# Altium schematic symbol library this.SchLib: 12 symbols
Pins are listed as number, name and electrical type; pins without a type are passive.

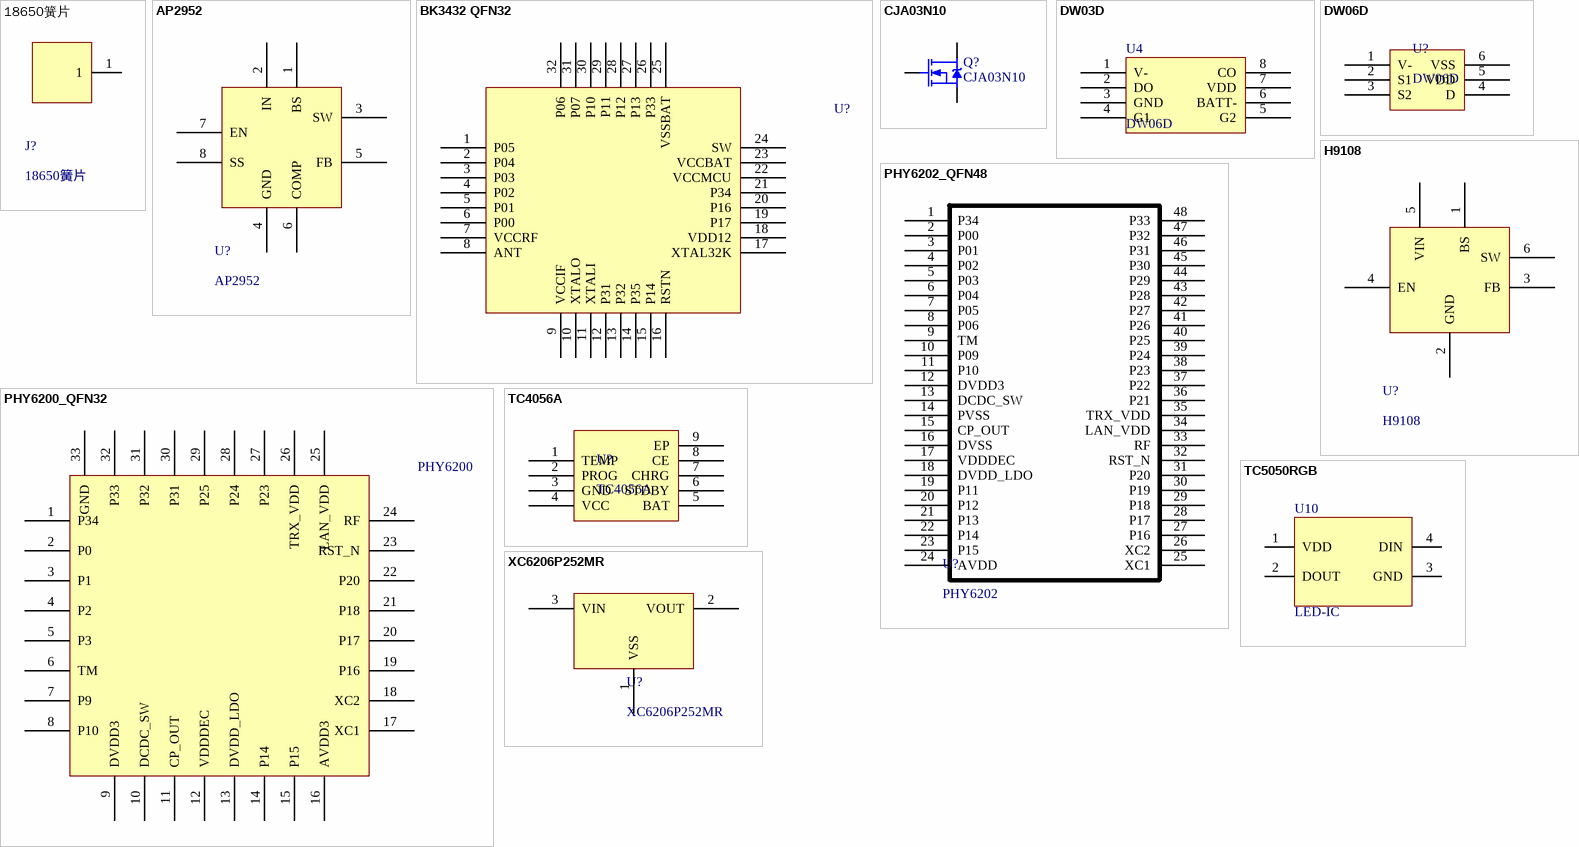
[diagram p0: symbols 18650簧片 to XC6206P252MR]

## 18650簧片
designator J?
footprint 18650电池簧片
pins: 1

## AP2952
designator U?
DC-DC
pins: 1 BS, 2 IN, 3 SW, 4 GND, 5 FB, 6 COMP, 7 EN, 8 SS

## BK3432 QFN32
designator U?  (value not drawn)
footprint QFN_32
pins: 1 P05, 2 P04, 3 P03, 4 P02, 5 P01, 6 P00, 7 VCCRF, 8 ANT, 9 VCCIF, 10 XTALO, 11 XTALI, 12 P31, 13 P32, 14 P35, 15 P14, 16 RSTN, 17 XTAL32K, 18 VDD12, 19 P17, 20 P16, 21 P34, 22 VCCMCU, 23 VCCBAT, 24 SW, 25 VSSBAT, 26 P33, 27 P13, 28 P12, 29 P11, 30 P10, 31 P07, 32 P06

## CJA03N10
designator Q?
N沟道场效应管
footprint LC-SOT-89(SOT-89-3)
pins: 1 G, 2 D, 3 S

## DW03D
designator U4, comment DW06D
充电保护IC
footprint SOT-23-6_L2.9-W1.6-P0.95-LS2.8-BR
pins: 1 V-, 2 DO, 3 GND, 4 G1, 5 G2, 6 BATT-, 7 VDD, 8 CO

## DW06D
designator U?
充电保护IC
footprint SOT-23-6_L2.9-W1.6-P0.95-LS2.8-BR
pins: 1 V-, 2 S1, 3 S2, 4 D, 5 VDD, 6 VSS

## H9108
designator U?
DC-DC
pins: 1 BS, 2 GND, 3 FB, 4 EN, 5 VIN, 6 SW

## PHY6200_QFN32
designator PHY6200, comment PHY620  (value not drawn)
footprint QFN32
footprint QFN_32
footprint QFN_32
pins: 1 P34, 2 P0, 3 P1, 4 P2, 5 P3, 6 TM, 7 P9, 8 P10, 9 DVDD3, 10 DCDC_SW, 11 CP_OUT, 12 VDDDEC, 13 DVDD_LDO, 14 P14, 15 P15, 16 AVDD3, 17 XC1, 18 XC2, 19 P16, 20 P17, 21 P18, 22 P20, 23 RST_N, 24 RF, 25 LAN_VDD, 26 TRX_VDD, 27 P23, 28 P24, 29 P25, 30 P31, 31 P32, 32 P33, 33 GND

## PHY6202_QFN48
designator U?, comment PHY6202
蓝牙5.0 MCU
footprint QFN48 7X7
pins: 1 P34, 2 P00, 3 P01, 4 P02, 5 P03, 6 P04, 7 P05, 8 P06, 9 TM, 10 P09, 11 P10, 12 DVDD3, 13 DCDC_SW, 14 PVSS, 15 CP_OUT, 16 DVSS, 17 VDDDEC, 18 DVDD_LDO, 19 P11, 20 P12, 21 P13, 22 P14, 23 P15, 24 AVDD, 25 XC1, 26 XC2, 27 P16, 28 P17, 29 P18, 30 P19, 31 P20, 32 RST_N, 33 RF, 34 LAN_VDD, 35 TRX_VDD, 36 P21, 37 P22, 38 P23, 39 P24, 40 P25, 41 P26, 42 P27, 43 P28, 44 P29, 45 P30, 46 P31, 47 P32, 48 P33

## TC4056A
designator U?
锂电池充电IC
footprint SOP-8
footprint SOP-8_L4.9-W3.9-P1.27-LS6.0-BL-EP
pins: 1 TEMP, 2 PROG, 3 GND, 4 VCC, 5 BAT, 6 STDBY, 7 CHRG, 8 CE, 9 EP

## TC5050RGB
designator U10, comment LED-IC
footprint LED-SMD_4P-L5.0-W5.0-BL_TC5050RGB
pins: 1 VDD, 2 DOUT, 3 GND, 4 DIN

## XC6206P252MR
designator U?
LDO
footprint SOT23-3
pins: 1 VSS, 2 VOUT, 3 VIN